# Altium footprint library MX.PcbLib: 64 footprints (part 4 of 4)
Each footprint in its own frame and in the unit in brackets; x right, y up, seen from the top. Pads: shape width x height; smd on the part's side, far side on the other; paste and mask are expansions set on the pad; w line width, h text height; cw(c..) or ccw(c..) is an arc to the next point about the centre after c.
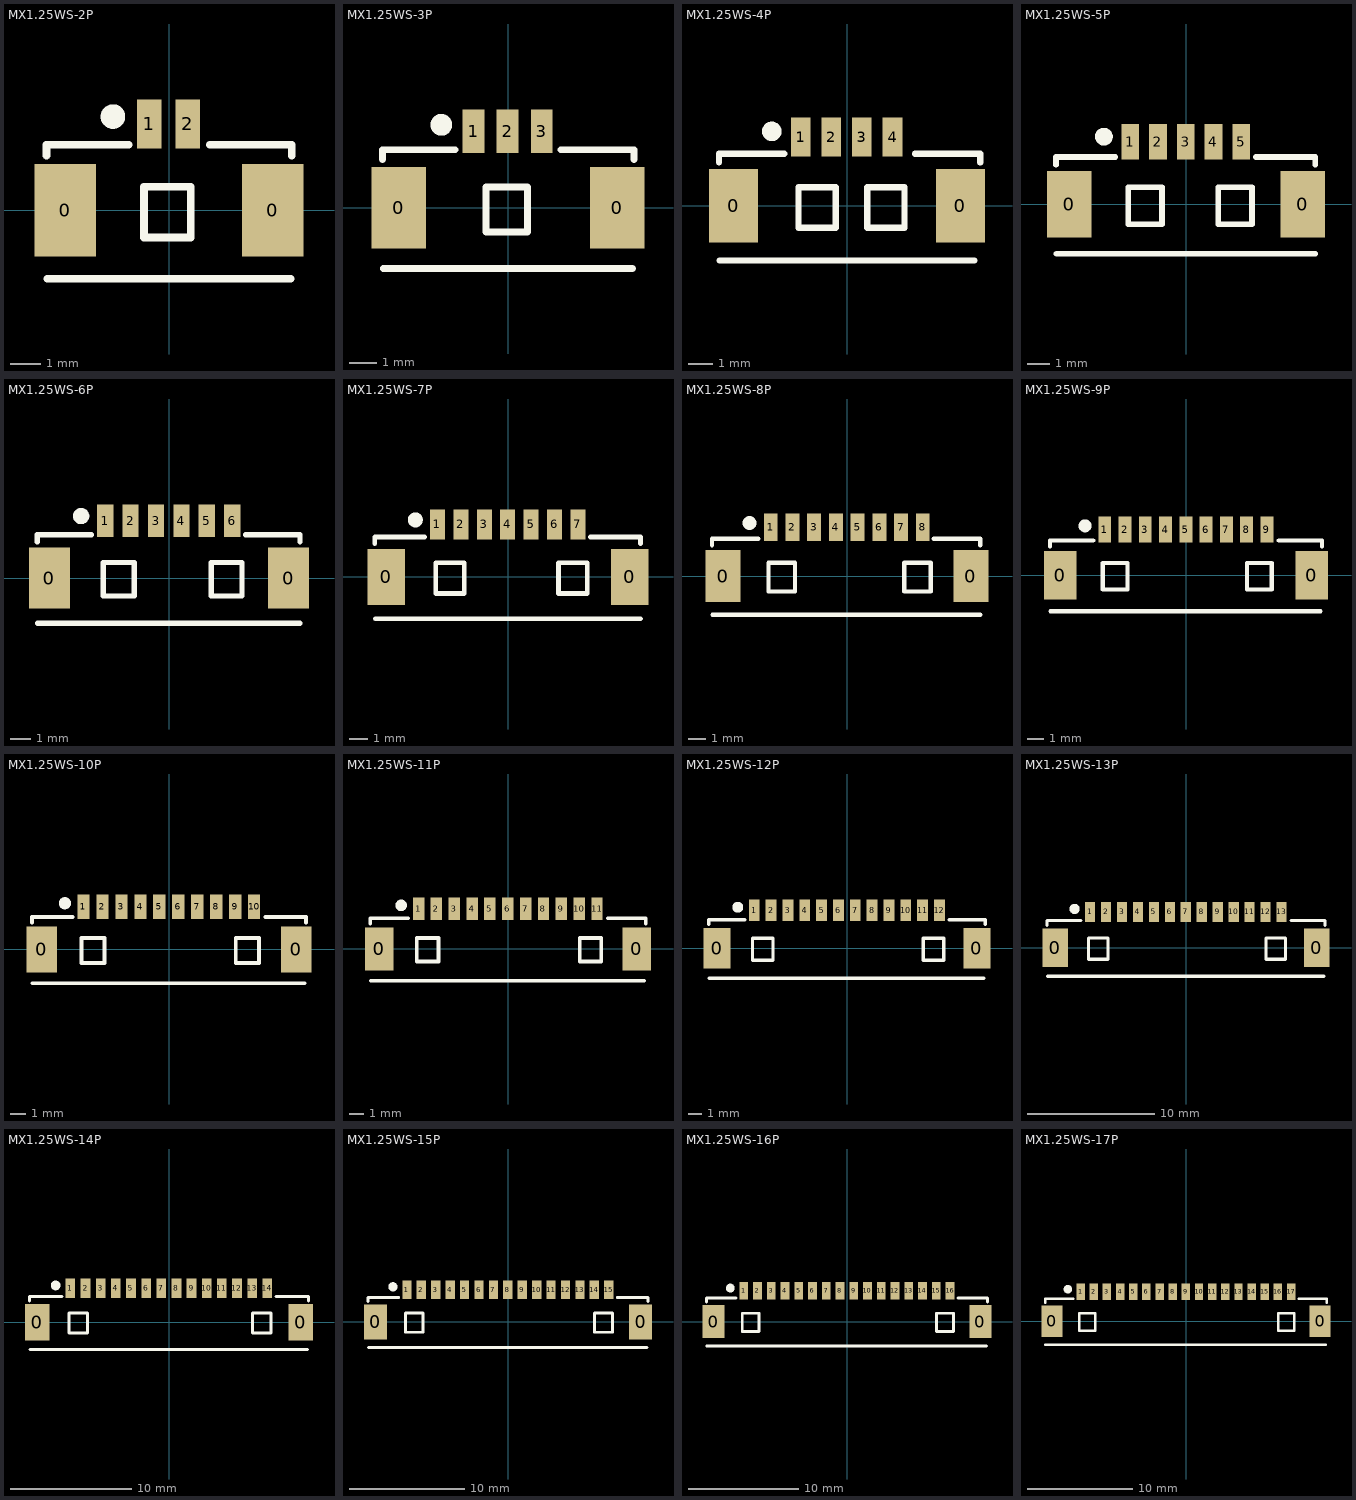
[diagram p3: the footprints below, top view; thin cyan lines are the x and y axes]

## MX1.25WS-2P [mm]
pads (4):
  rect 2x3 smd: 0(-3.382,0) 0(3.382,0)
  rect 0.8x1.6 smd: 1(-0.639,2.811) 2(0.611,2.811)
Top Overlay:
  circle w0.4: c-1.824,3.048 r0.2
  lines w0.254: -3.983,1.778 -3.983,2.134 -1.316,2.134 ; -3.956,-2.228 3.951,-2.228 ; 1.328,2.134 3.995,2.134 3.995,1.778 ; -0.814,-0.889 -0.814,0.762 0.71,0.762 0.71,-0.889 -0.814,-0.889
3D body "MX 1.25-WS-2P.STEP": height 3.4, standoff 0, extent -3.876,-2.167 3.774,3.023

## MX1.25WS-3P [mm]
pads (5):
  rect 2x3 smd: 0(-4.007,0) 0(4.007,0)
  rect 0.8x1.6 smd: 1(-1.264,2.811) 2(-0.014,2.811) 3(1.236,2.811)
Top Overlay:
  circle w0.4: c-2.449,3.048 r0.2
  lines w0.254: -4.608,1.778 -4.608,2.134 -1.941,2.134 ; -4.581,-2.228 4.576,-2.228 ; 1.953,2.134 4.62,2.134 4.62,1.778 ; -0.814,-0.889 -0.814,0.762 0.71,0.762 0.71,-0.889 -0.814,-0.889
3D body "MX 1.25-WS-3P.STEP": height 3.4, standoff 0, extent -4.404,-2.112 4.496,3.078

## MX1.25WS-4P [mm]
pads (6):
  rect 2x3 smd: 0(-4.632,0) 0(4.632,0)
  rect 0.8x1.6 smd: 1(-1.889,2.811) 2(-0.639,2.811) 3(0.611,2.811) 4(1.861,2.811)
Top Overlay:
  circle w0.4: c-3.074,3.048 r0.2
  lines w0.254: -5.233,1.778 -5.233,2.134 -2.566,2.134 ; -5.206,-2.228 5.201,-2.228 ; 2.782,2.134 5.449,2.134 5.449,1.778 ; -1.982,-0.889 -1.982,0.762 -0.458,0.762 -0.458,-0.889 -1.982,-0.889 ; 0.826,-0.889 2.35,-0.889 2.35,0.762 0.826,0.762 0.826,-0.889
3D body "MX 1.25-WS-4P.STEP": height 3.4, standoff 0, extent -5.146,-1.96 5.004,3.23

## MX1.25WS-5P [mm]
pads (7):
  rect 2x3 smd: 0(-5.257,0) 0(5.257,0)
  rect 0.8x1.6 smd: 1(-2.514,2.811) 2(-1.264,2.811) 3(-0.014,2.811) 4(1.236,2.811) 5(2.486,2.811)
Top Overlay:
  circle w0.4: c-3.699,3.048 r0.2
  lines w0.254: -5.858,1.778 -5.858,2.134 -3.191,2.134 ; -5.831,-2.228 5.826,-2.228 ; 3.153,2.134 5.82,2.134 5.82,1.778 ; -2.607,-0.889 -2.607,0.762 -1.083,0.762 -1.083,-0.889 -2.607,-0.889 ; 1.451,-0.889 1.451,0.762 2.975,0.762 2.975,-0.889 1.451,-0.889
3D body "MX 1.25-WS-5P.STEP": height 3.4, standoff 0, extent -5.736,-2.214 5.664,2.976

## MX1.25WS-6P [mm]
pads (8):
  rect 2x3 smd: 0(-5.882,0) 0(5.882,0)
  rect 0.8x1.6 smd: 1(-3.139,2.811) 2(-1.889,2.811) 3(-0.639,2.811) 4(0.611,2.811) 5(1.861,2.811) 6(3.111,2.811)
Top Overlay:
  circle w0.4: c-4.324,3.048 r0.2
  lines w0.254: -6.483,1.778 -6.483,2.134 -3.816,2.134 ; -6.456,-2.228 6.451,-2.228 ; 3.778,2.134 6.445,2.134 6.445,1.778 ; -3.232,-0.889 -3.232,0.762 -1.708,0.762 -1.708,-0.889 -3.232,-0.889 ; 2.076,-0.889 2.076,0.762 3.6,0.762 3.6,-0.889 2.076,-0.889
3D body "MX 1.25-WS-6P.STEP": height 3.4, standoff 0, extent -6.249,-2.21 6.401,2.98

## MX1.25WS-7P [mm]
pads (9):
  rect 2x3 smd: 0(-6.507,0) 0(6.507,0)
  rect 0.8x1.6 smd: 1(-3.764,2.811) 2(-2.514,2.811) 3(-1.264,2.811) 4(-0.014,2.811) 5(1.236,2.811) 6(2.486,2.811) 7(3.736,2.811)
Top Overlay:
  circle w0.4: c-4.949,3.048 r0.2
  lines w0.254: -7.108,1.778 -7.108,2.134 -4.441,2.134 ; -7.081,-2.228 7.076,-2.228 ; 4.403,2.134 7.07,2.134 7.07,1.778 ; -3.857,-0.889 -2.333,-0.889 -2.333,0.762 -3.857,0.762 -3.857,-0.889 ; 2.701,-0.889 4.225,-0.889 4.225,0.762 2.701,0.762 2.701,-0.889
3D body "MX 1.25-WS-7P.STEP": height 3.4, standoff 0, extent -6.95,-2.142 6.95,3.048

## MX1.25WS-8P [mm]
pads (10):
  rect 2x3 smd: 0(-7.132,0) 0(7.132,0)
  rect 0.8x1.6 smd: 1(-4.389,2.811) 2(-3.139,2.811) 3(-1.889,2.811) 4(-0.639,2.811) 5(0.611,2.811) 6(1.861,2.811) 7(3.111,2.811) 8(4.361,2.811)
Top Overlay:
  circle w0.4: c-5.608,3.048 r0.2
  lines w0.254: -7.767,1.778 -7.767,2.134 -5.1,2.134 ; -7.74,-2.228 7.667,-2.228 ; 4.994,2.134 7.661,2.134 7.661,1.778 ; -4.516,-0.889 -2.992,-0.889 -2.992,0.762 -4.516,0.762 -4.516,-0.889 ; 3.292,-0.889 4.816,-0.889 4.816,0.762 3.292,0.762 3.292,-0.889
3D body "MX 1.25-WS-8P.STEP": height 3.4, standoff 0, extent -7.55,-2.007 7.6,3.183

## MX1.25WS-9P [mm]
pads (11):
  rect 2x3 smd: 0(-7.757,0) 0(7.757,0)
  rect 0.8x1.6 smd: 1(-5.014,2.811) 2(-3.764,2.811) 3(-2.514,2.811) 4(-1.264,2.811) 5(-0.014,2.811) 6(1.236,2.811) 7(2.486,2.811) 8(3.736,2.811) 9(4.986,2.811)
Top Overlay:
  circle w0.4: c-6.233,3.048 r0.2
  lines w0.254: -8.392,1.778 -8.392,2.134 -5.725,2.134 ; -8.365,-2.228 8.292,-2.228 ; 5.725,2.134 8.392,2.134 8.392,1.778 ; -5.141,-0.889 -3.617,-0.889 -3.617,0.762 -5.141,0.762 -5.141,-0.889 ; 3.769,-0.889 5.293,-0.889 5.293,0.762 3.769,0.762 3.769,-0.889
3D body "MX 1.25-WS-9P.STEP": height 3.4, standoff 0, extent -8.2,-2.108 8.2,3.082

## MX1.25WS-10P [mm]
pads (12):
  rect 2x3 smd: 0(-8.382,0) 0(8.382,0)
  rect 0.8x1.6 smd: 1(-5.639,2.811) 2(-4.389,2.811) 3(-3.139,2.811) 4(-1.889,2.811) 5(-0.639,2.811) 6(0.611,2.811) 7(1.861,2.811) 8(3.111,2.811) 9(4.361,2.811) 10(5.611,2.811)
Top Overlay:
  circle w0.4: c-6.858,3.048 r0.2
  lines w0.254: -9.017,1.778 -9.017,2.134 -6.35,2.134 ; -8.99,-2.228 8.917,-2.228 ; 6.35,2.134 9.017,2.134 9.017,1.778 ; -5.766,-0.889 -5.766,0.762 -4.242,0.762 -4.242,-0.889 -5.766,-0.889 ; 4.394,-0.889 4.394,0.762 5.918,0.762 5.918,-0.889 4.394,-0.889
3D body "MX 1.25-WS-10P.STEP": height 3.4, standoff 0, extent -8.814,-2.163 8.836,3.027

## MX1.25WS-11P [mm]
pads (13):
  rect 2x3 smd: 0(-9.007,0) 0(9.007,0)
  rect 0.8x1.6 smd: 1(-6.264,2.811) 2(-5.014,2.811) 3(-3.764,2.811) 4(-2.514,2.811) 5(-1.264,2.811) 6(-0.014,2.811) 7(1.236,2.811) 8(2.486,2.811) 9(3.736,2.811) 10(4.986,2.811) 11(6.236,2.811)
Top Overlay:
  circle w0.4: c-7.483,3.048 r0.2
  lines w0.254: -9.642,1.778 -9.642,2.134 -6.975,2.134 ; -9.615,-2.228 9.542,-2.228 ; 6.975,2.134 9.642,2.134 9.642,1.778 ; -6.391,-0.889 -4.867,-0.889 -4.867,0.762 -6.391,0.762 -6.391,-0.889 ; 5.019,-0.889 6.543,-0.889 6.543,0.762 5.019,0.762 5.019,-0.889
3D body "MX 1.25-WS-11P.STEP": height 3.4, standoff 0, extent -9.423,-2.011 9.477,3.179

## MX1.25WS-12P [mm]
pads (14):
  rect 2x3 smd: 0(-9.632,0) 0(9.632,0)
  rect 0.8x1.6 smd: 1(-6.889,2.811) 2(-5.639,2.811) 3(-4.389,2.811) 4(-3.139,2.811) 5(-1.889,2.811) 6(-0.639,2.811) 7(0.611,2.811) 8(1.861,2.811) 9(3.111,2.811) 10(4.361,2.811) 11(5.611,2.811) 12(6.861,2.811)
Top Overlay:
  circle w0.4: c-8.108,3.048 r0.2
  lines w0.254: -10.267,1.778 -10.267,2.134 -7.6,2.134 ; -10.24,-2.228 10.167,-2.228 ; 7.6,2.134 10.267,2.134 10.267,1.778 ; -7.016,-0.889 -7.016,0.762 -5.492,0.762 -5.492,-0.889 -7.016,-0.889 ; 5.644,-0.889 5.644,0.762 7.168,0.762 7.168,-0.889 5.644,-0.889
3D body "MX 1.25-WS-12P.STEP": height 3.4, standoff 0, extent -10.058,-2.036 10.092,3.154

## MX1.25WS-13P [mm]
pads (15):
  rect 2x3 smd: 0(-10.257,0) 0(10.257,0)
  rect 0.8x1.6 smd: 1(-7.514,2.811) 2(-6.264,2.811) 3(-5.014,2.811) 4(-3.764,2.811) 5(-2.514,2.811) 6(-1.264,2.811) 7(-0.014,2.811) 8(1.236,2.811) 9(2.486,2.811) 10(3.736,2.811) 11(4.986,2.811) 12(6.236,2.811) 13(7.486,2.811)
Top Overlay:
  circle w0.4: c-8.733,3.048 r0.2
  lines w0.254: -10.892,1.778 -10.892,2.134 -8.225,2.134 ; -10.865,-2.228 10.792,-2.228 ; 8.225,2.134 10.892,2.134 10.892,1.778 ; -7.641,-0.889 -7.641,0.762 -6.117,0.762 -6.117,-0.889 -7.641,-0.889 ; 6.269,-0.889 6.269,0.762 7.793,0.762 7.793,-0.889 6.269,-0.889
3D body "MX 1.25-WS-13P.STEP": height 3.4, standoff 0, extent -10.649,-2.083 10.751,3.107

## MX1.25WS-14P [mm]
pads (16):
  rect 2x3 smd: 0(-10.882,0) 0(10.882,0)
  rect 0.8x1.6 smd: 1(-8.139,2.811) 2(-6.889,2.811) 3(-5.639,2.811) 4(-4.389,2.811) 5(-3.139,2.811) 6(-1.889,2.811) 7(-0.639,2.811) 8(0.611,2.811) 9(1.861,2.811) 10(3.111,2.811) 11(4.361,2.811) 12(5.611,2.811) 13(6.861,2.811) 14(8.111,2.811)
Top Overlay:
  circle w0.4: c-9.358,3.048 r0.2
  lines w0.254: -11.517,1.778 -11.517,2.134 -8.85,2.134 ; -11.49,-2.228 11.417,-2.228 ; 8.85,2.134 11.517,2.134 11.517,1.778 ; -8.266,-0.889 -6.742,-0.889 -6.742,0.762 -8.266,0.762 -8.266,-0.889 ; 6.894,-0.889 8.418,-0.889 8.418,0.762 6.894,0.762 6.894,-0.889
3D body "MX 1.25-WS-14P.STEP": height 3.4, standoff 0, extent -11.354,-2.214 11.296,2.976

## MX1.25WS-15P [mm]
pads (17):
  rect 2x3 smd: 0(-11.507,0) 0(11.507,0)
  rect 0.8x1.6 smd: 1(-8.764,2.811) 2(-7.514,2.811) 3(-6.264,2.811) 4(-5.014,2.811) 5(-3.764,2.811) 6(-2.514,2.811) 7(-1.264,2.811) 8(-0.014,2.811) 9(1.236,2.811) 10(2.486,2.811) 11(3.736,2.811) 12(4.986,2.811) 13(6.236,2.811) 14(7.486,2.811) 15(8.736,2.811)
Top Overlay:
  circle w0.4: c-9.983,3.048 r0.2
  lines w0.254: -12.142,1.778 -12.142,2.134 -9.475,2.134 ; -12.115,-2.228 12.042,-2.228 ; 9.475,2.134 12.142,2.134 12.142,1.778 ; -8.891,-0.889 -8.891,0.762 -7.367,0.762 -7.367,-0.889 -8.891,-0.889 ; 7.519,-0.889 7.519,0.762 9.043,0.762 9.043,-0.889 7.519,-0.889
3D body "MX 1.25-WS-15P.STEP": height 3.4, standoff 0, extent -11.963,-2.138 11.937,3.052

## MX1.25WS-16P [mm]
pads (18):
  rect 2x3 smd: 0(-12.132,0) 0(12.132,0)
  rect 0.8x1.6 smd: 1(-9.389,2.811) 2(-8.139,2.811) 3(-6.889,2.811) 4(-5.639,2.811) 5(-4.389,2.811) 6(-3.139,2.811) 7(-1.889,2.811) 8(-0.639,2.811) 9(0.611,2.811) 10(1.861,2.811) 11(3.111,2.811) 12(4.361,2.811) 13(5.611,2.811) 14(6.861,2.811) 15(8.111,2.811) 16(9.361,2.811)
Top Overlay:
  circle w0.4: c-10.608,3.048 r0.2
  lines w0.254: -12.767,1.778 -12.767,2.134 -10.1,2.134 ; -12.74,-2.228 12.667,-2.228 ; 10.1,2.134 12.767,2.134 12.767,1.778 ; -9.516,-0.889 -7.992,-0.889 -7.992,0.762 -9.516,0.762 -9.516,-0.889 ; 8.144,-0.889 9.668,-0.889 9.668,0.762 8.144,0.762 8.144,-0.889
3D body "MX 1.25-WS-16P.STEP": height 3.4, standoff 0, extent -12.522,-2.189 12.628,3.001

## MX1.25WS-17P [mm]
pads (19):
  rect 2x3 smd: 0(-12.757,0) 0(12.757,0)
  rect 0.8x1.6 smd: 1(-10.014,2.811) 2(-8.764,2.811) 3(-7.514,2.811) 4(-6.264,2.811) 5(-5.014,2.811) 6(-3.764,2.811) 7(-2.514,2.811) 8(-1.264,2.811) 9(-0.014,2.811) 10(1.236,2.811) 11(2.486,2.811) 12(3.736,2.811) 13(4.986,2.811) 14(6.236,2.811) 15(7.486,2.811) 16(8.736,2.811) 17(9.986,2.811)
Top Overlay:
  circle w0.4: c-11.233,3.048 r0.2
  lines w0.254: -13.392,1.778 -13.392,2.134 -10.725,2.134 ; -13.365,-2.228 13.292,-2.228 ; 10.725,2.134 13.392,2.134 13.392,1.778 ; -10.141,-0.889 -10.141,0.762 -8.617,0.762 -8.617,-0.889 -10.141,-0.889 ; 8.769,-0.889 8.769,0.762 10.293,0.762 10.293,-0.889 8.769,-0.889
3D body "MX 1.25-WS-17P.STEP": height 3.4, standoff 0, extent -13.208,-2.189 13.192,3.001